# EAGLE library part 87 (library display-lcd-lxd)
5 Numerical Digit, 1.00" (25.40) Direct Drive Display Additional Descriptors: none
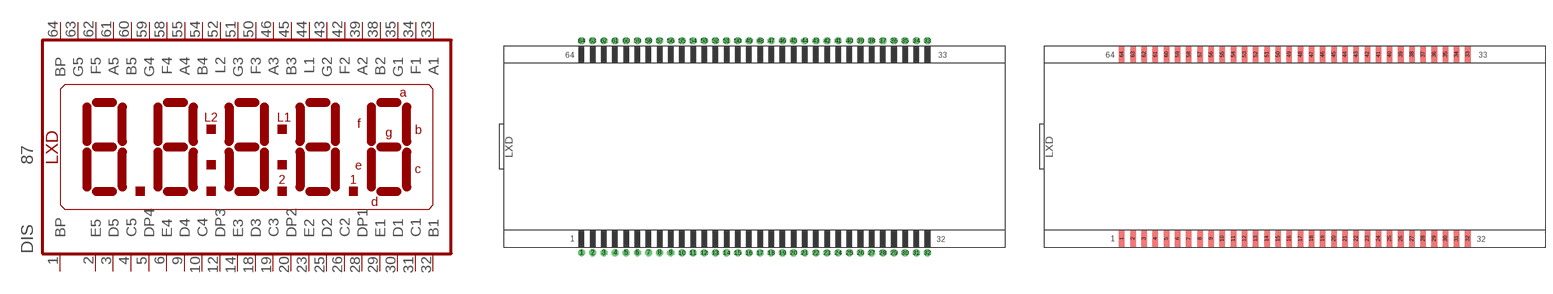
[diagram p26: symbol with the pads of 87-D; footprints 87-D, 87-E]

Designator prefix DIS

## 87DIP  [87-D]
1  BP  pas
2  E5  pas
3  D5  pas
4  C5  pas
5  DP4  pas
6  E4  pas
9  D4  pas
10  C4  pas
12  DP3  pas
14  E3  pas
18  D3  pas
19  C3  pas
20  DP2  pas
23  E2  pas
25  D2  pas
26  C2  pas
28  DP1  pas
29  E1  pas
30  D1  pas
31  C1  pas
32  B1  pas
33  A1  pas
34  F1  pas
35  G1  pas
38  B2  pas
39  A2  pas
42  F2  pas
43  G2  pas
44  L1  pas
45  B3  pas
46  A3  pas
50  F3  pas
51  G3  pas
52  L2  pas
54  B4  pas
55  A4  pas
58  F4  pas
59  G4  pas
60  B5  pas
61  A5  pas
62  F5  pas
63  G5  pas
64  BP  pas

## 87SMD  [87-E]
Pads as for 87-D

## Footprint 87-D (pad centres in mm)
Glass Size: 4.50" x 1.80" &nbsp &nbsp &nbsp &nbsp &nbsp &nbsp &nbsp &nbsp &nbsp (114.30 x 45.72)
drill 0.813 pad 1.6 round: 1 -39.37,-24.13
drill 0.813 pad 1.6 octagon: 2 -36.83,-24.13; 3 -34.29,-24.13; 4 -31.75,-24.13; 5 -29.21,-24.13; 6 -26.67,-24.13; 7 -24.13,-24.13; 8 -21.59,-24.13; 9 -19.05,-24.13; 10 -16.51,-24.13; 11 -13.97,-24.13; 12 -11.43,-24.13; 13 -8.89,-24.13; 14 -6.35,-24.13; 15 -3.81,-24.13; 16 -1.27,-24.13; 17 1.27,-24.13; 18 3.81,-24.13; 19 6.35,-24.13; 20 8.89,-24.13; 21 11.43,-24.13; 22 13.97,-24.13; 23 16.51,-24.13; 24 19.05,-24.13; 25 21.59,-24.13; 26 24.13,-24.13; 27 26.67,-24.13; 28 29.21,-24.13; 29 31.75,-24.13; 30 34.29,-24.13; 31 36.83,-24.13; 32 39.37,-24.13; 33 39.37,24.13; 34 36.83,24.13; 35 34.29,24.13; 36 31.75,24.13; 37 29.21,24.13; 38 26.67,24.13; 39 24.13,24.13; 40 21.59,24.13; 41 19.05,24.13; 42 16.51,24.13; 43 13.97,24.13; 44 11.43,24.13; 45 8.89,24.13; 46 6.35,24.13; 47 3.81,24.13; 48 1.27,24.13; 49 -1.27,24.13; 50 -3.81,24.13; 51 -6.35,24.13; 52 -8.89,24.13; 53 -11.43,24.13; 54 -13.97,24.13; 55 -16.51,24.13; 56 -19.05,24.13; 57 -21.59,24.13; 58 -24.13,24.13; 59 -26.67,24.13; 60 -29.21,24.13; 61 -31.75,24.13; 62 -34.29,24.13; 63 -36.83,24.13; 64 -39.37,24.13

## Footprint 87-E (pad centres in mm)
Glass Size: 4.50" x 1.80" &nbsp &nbsp &nbsp &nbsp &nbsp &nbsp &nbsp &nbsp &nbsp (114.30 x 45.72)
smd 1.27 x 3.81: 1 -39.37,-20.955; 2 -36.83,-20.955; 3 -34.29,-20.955; 4 -31.75,-20.955; 5 -29.21,-20.955; 6 -26.67,-20.955; 7 -24.13,-20.955; 8 -21.59,-20.955; 9 -19.05,-20.955; 10 -16.51,-20.955; 11 -13.97,-20.955; 12 -11.43,-20.955; 13 -8.89,-20.955; 14 -6.35,-20.955; 15 -3.81,-20.955; 16 -1.27,-20.955; 17 1.27,-20.955; 18 3.81,-20.955; 19 6.35,-20.955; 20 8.89,-20.955; 21 11.43,-20.955; 22 13.97,-20.955; 23 16.51,-20.955; 24 19.05,-20.955; 25 21.59,-20.955; 26 24.13,-20.955; 27 26.67,-20.955; 28 29.21,-20.955; 29 31.75,-20.955; 30 34.29,-20.955; 31 36.83,-20.955; 32 39.37,-20.955; 33 39.37,20.955; 34 36.83,20.955; 35 34.29,20.955; 36 31.75,20.955; 37 29.21,20.955; 38 26.67,20.955; 39 24.13,20.955; 40 21.59,20.955; 41 19.05,20.955; 42 16.51,20.955; 43 13.97,20.955; 44 11.43,20.955; 45 8.89,20.955; 46 6.35,20.955; 47 3.81,20.955; 48 1.27,20.955; 49 -1.27,20.955; 50 -3.81,20.955; 51 -6.35,20.955; 52 -8.89,20.955; 53 -11.43,20.955; 54 -13.97,20.955; 55 -16.51,20.955; 56 -19.05,20.955; 57 -21.59,20.955; 58 -24.13,20.955; 59 -26.67,20.955; 60 -29.21,20.955; 61 -31.75,20.955; 62 -34.29,20.955; 63 -36.83,20.955; 64 -39.37,20.955